# Altium schematic symbol library Резистор 0805.SchLib: 10 symbols
Pins are listed as number, name and electrical type; pins without a type are passive.

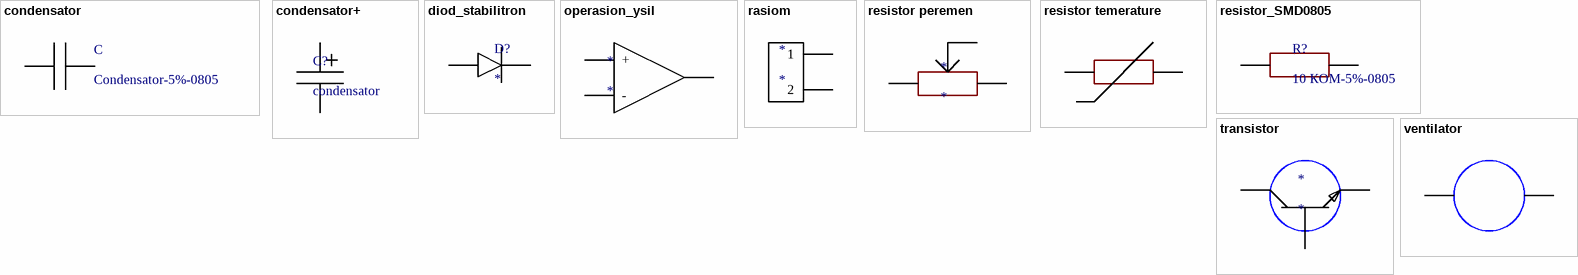
[diagram p0: symbols condensator to ventilator]

## condensator
designator C, comment Condensator-5%-0805
Condensator_SDM_0805
pins: 2, 3

## condensator+
designator С?, comment condensator
220000UF 20% 100V; partnamber: LNR2A224MSE; manufacture: Nichicon Corp.; href: https://www.chipdip.ru/product0/8005615214?from=suggest_product
footprint PCBComponent_1 - duplicate2
pins: 2, 3

## diod_stabilitron
designator D?
diod; manufacture: Diodes Incorporated; partnamber: D24V0S1U2TQ-7; href: https://www.chipdip.ru/product0/8004701593
footprint PCBComponent_1 - duplicate1
pins: 3, 3

## operasion_ysil
designator *
footprint PCBComponent_1 - duplicate4
pins: 0, 1 +, 2 -

## rasiom
designator *
footprint PCBComponent_1 - duplicate3
pins: 3 1, 4 2

## resistor peremen
designator *
footprint Resistor SMD 0805
pins: 2, 2, 3

## resistor temerature
designator RK?, comment termistorSMD 0805_1КОМ  (value not drawn)
temperature: *; href: *
footprint Resistor SMD 0805
pins: 3, 3

## resistor_SMD0805
designator R?, comment 10 КОМ-5%-0805
Производительность: *; chrev: *; partnamber: *
footprint Resistor SMD 0805
pins: 2, 3

## transistor
designator *
href: *; manufacture: *; partnamber: *
footprint transistor
pins: 3, 3, 4

## ventilator
designator EC_12B, comment ventilator_EC4010H12B  (value not drawn)
Operating voltage: *; Pin: *; efficiency: *
footprint PCBComponent_1 - duplicate (Footprint not found)
pins: 3, 3